# Altium footprint library switch.PcbLib: 36 footprints (part 1 of 3)
Each footprint in its own frame and in the unit in brackets; x right, y up, seen from the top. Pads: shape width x height; smd on the part's side, far side on the other; paste and mask are expansions set on the pad; w line width, h text height; cw(c..) or ccw(c..) is an arc to the next point about the centre after c.
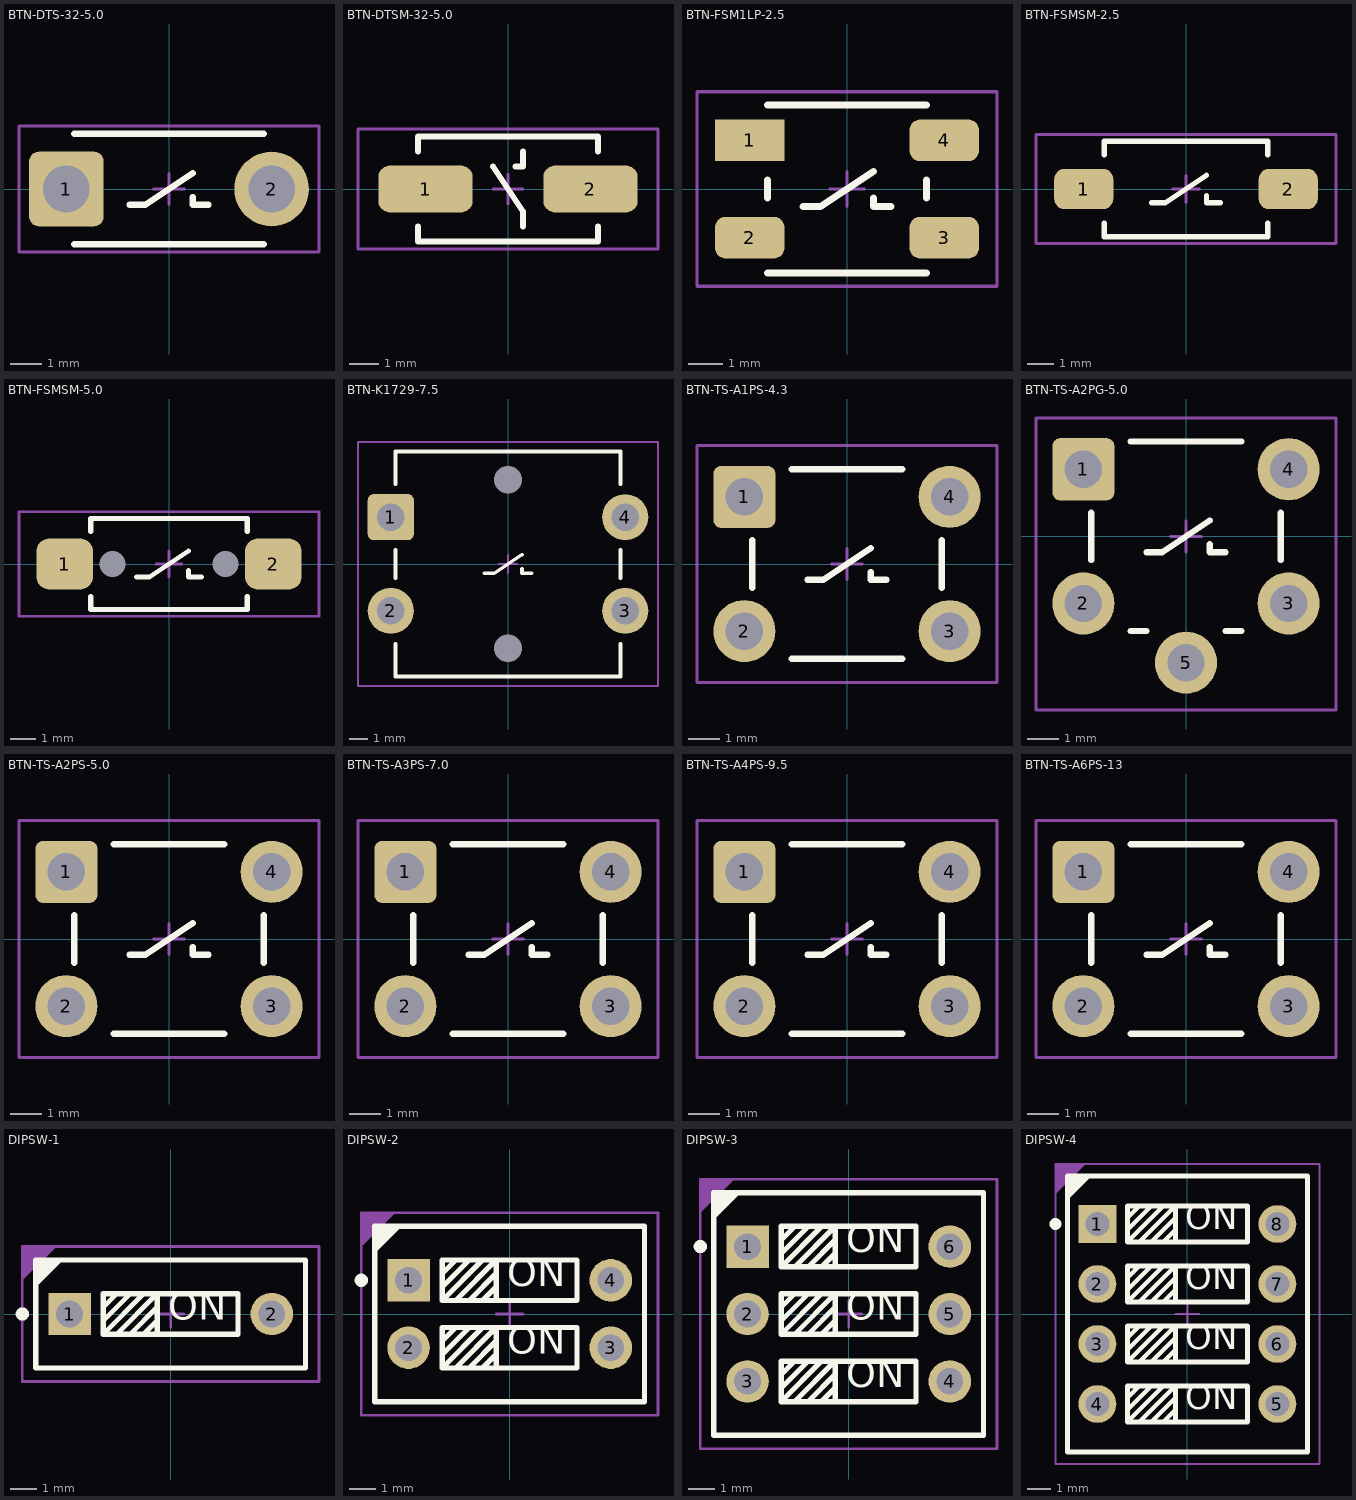
[diagram p0: the footprints below, top view; thin cyan lines are the x and y axes]

## BTN-DTS-32-5.0 [mm]
pads (2):
  rrect25% 2.4x2.4 hole 1.5: 1(-3.302,0)
  round 2.4 hole 1.5: 2(3.302,0)
Top Overlay:
  lines w0.2: -3.048,-1.778 3.048,-1.778 ; -3.048,1.778 3.048,1.778 ; -1.27,-0.508 -0.762,-0.508 0.762,0.508 ; 0.762,-0.254 0.762,-0.508 1.27,-0.508
Mechanical 13:
  lines w0.1: -4.826,-2.032 4.826,-2.032 4.826,2.032 -4.826,2.032 -4.826,-2.032
  text ".Designator" at -3.302,-1.016 h2
Mechanical 15:
  lines w0.05: -4.826,-2.032 4.826,-2.032 4.826,2.032 -4.826,2.032 -4.826,-2.032
  lines w0.1: -0.5,0 0.5,0 ; 0,-0.5 0,0.5
3D body: height 3.5, standoff 0.1, extent -3.048,-1.778 3.048,1.778
3D body: height 5, standoff 3.5, extent -1.524,-0.762 1.524,0.762

## BTN-DTSM-32-5.0 [mm]
pads (2):
  rrect50% 3.2x1.6 smd: 1(-2.794,0) 2(2.794,0)
Top Overlay:
  lines w0.2: -3.048,-1.27 -3.048,-1.778 3.048,-1.778 3.048,-1.27 ; -3.048,1.27 -3.048,1.778 3.048,1.778 3.048,1.27 ; -0.508,0.762 0.508,-0.762 0.508,-1.27 ; 0.254,0.762 0.508,0.762 0.508,1.27
Mechanical 13:
  lines w0.1: -5.08,-2.032 -5.08,2.032 5.08,2.032 5.08,-2.032 -5.08,-2.032
  text ".Designator" at -3.22,-0.94 h2
Mechanical 15:
  lines w0.05: -5.08,-2.032 -5.08,2.032 5.08,2.032 5.08,-2.032 -5.08,-2.032
  lines w0.1: -0.5,0 0.5,0 ; 0,-0.5 0,0.5
3D body: height 5, standoff 3.5, extent -1.524,-0.762 1.524,0.762
3D body: height 3.5, standoff 0.1, extent -3.048,-1.778 3.048,1.778

## BTN-FSM1LP-2.5 [mm]
pads (4):
  rect 2x1.2 smd: 1(-2.8,1.4)
  rrect50% 2x1.2 smd: 2(-2.8,-1.4) 3(2.8,-1.4) 4(2.8,1.4)
Top Overlay:
  lines w0.2: -2.286,-2.413 2.286,-2.413 ; -2.286,-0.254 -2.286,0.254 ; -2.286,2.413 2.286,2.413 ; -1.27,-0.508 -0.762,-0.508 0.762,0.508 ; 0.762,-0.254 0.762,-0.508 1.27,-0.508 ; 2.286,-0.254 2.286,0.254
Mechanical 13:
  lines w0.1: -4.318,-2.794 -4.318,2.794 4.318,2.794 4.318,-2.794 -4.318,-2.794
  text ".Designator" at -3.21,-0.96 h2
Mechanical 15:
  lines w0.05: -4.318,-2.794 -4.318,2.794 4.318,2.794 4.318,-2.794 -4.318,-2.794
  lines w0.1: -0.5,0 0.5,0 ; 0,-0.5 0,0.5
3D body: height 1.5, standoff 0.1, extent -2.2,-2.4 2.2,2.4
3D body: height 2.5, standoff 1.5, extent -0.992,-0.998 1,0.998

## BTN-FSMSM-2.5 [mm]
pads (2):
  rrect50% 2.2x1.5 smd: 1(-3.81,0) 2(3.81,0)
Top Overlay:
  lines w0.2: -3.048,-1.27 -3.048,-1.778 3.048,-1.778 3.048,-1.27 ; -3.048,1.27 -3.048,1.778 3.048,1.778 3.048,1.27 ; -1.27,-0.508 -0.762,-0.508 0.762,0.508 ; 0.762,-0.254 0.762,-0.508 1.27,-0.508
Mechanical 13:
  lines w0.1: -5.588,-2.032 5.588,-2.032 5.588,2.032 -5.588,2.032 -5.588,-2.032
  text ".Designator" at -3.29,-0.91 h2
Mechanical 15:
  lines w0.05: -5.588,-2.032 5.588,-2.032 5.588,2.032 -5.588,2.032 -5.588,-2.032
  lines w0.1: -0.5,0 0.5,0 ; 0,-0.5 0,0.5
3D body: height 1.5, standoff 0.1, extent -3.048,-1.778 3.048,1.778
3D body: height 2.5, standoff 1.5, extent -1.524,-0.762 1.524,0.762

## BTN-FSMSM-5.0 [mm]
pads (4):
  round 0 hole 1: 0(-2.2,0) 0(2.2,0)
  rrect50% 2.2x2 smd: 1(-4.064,0) 2(4.064,0)
Top Overlay:
  lines w0.2: -3.048,-1.27 -3.048,-1.778 3.048,-1.778 3.048,-1.27 ; -3.048,1.27 -3.048,1.778 3.048,1.778 3.048,1.27 ; -1.27,-0.508 -0.762,-0.508 0.762,0.508 ; 0.762,-0.254 0.762,-0.508 1.27,-0.508
Mechanical 13:
  lines w0.1: -5.842,-2.032 5.842,-2.032 5.842,2.032 -5.842,2.032 -5.842,-2.032
  text ".Designator" at -3.27,-0.95 h2
Mechanical 15:
  lines w0.05: -5.842,-2.032 5.842,-2.032 5.842,2.032 -5.842,2.032 -5.842,-2.032
  lines w0.1: -0.5,0 0.5,0 ; 0,-0.5 0,0.5
3D body: height 3.5, standoff 0.1, extent -3.048,-1.778 3.048,1.778
3D body: height 5, standoff 3.5, extent -1.524,-0.762 1.524,0.762

## BTN-K1729-7.5 [mm]
pads (6):
  round 0 hole 1.5: 0(0,-4.572) 0(0,4.572)
  rrect25% 2.5x2.5 hole 1.5: 1(-6.35,2.54)
  round 2.5 hole 1.5: 2(-6.35,-2.54) 3(6.35,-2.54) 4(6.35,2.54)
Top Overlay:
  lines w0.2: -6.096,-4.318 -6.096,-6.096 6.096,-6.096 6.096,-4.318 ; -6.096,-0.762 -6.096,0.762 ; -6.096,4.318 -6.096,6.096 6.096,6.096 6.096,4.318 ; -1.27,-0.508 -0.762,-0.508 0.762,0.508 ; 0.762,-0.254 0.762,-0.508 1.27,-0.508 ; 6.096,-0.762 6.096,0.762
Mechanical 13:
  lines w0.1: -8.128,-6.604 -8.128,6.604 8.128,6.604 8.128,-6.604 -8.128,-6.604
  text ".Designator" at -3.41,-0.88 h2
Mechanical 15:
  lines w0.05: -8.128,-6.604 -8.128,6.604 8.128,6.604 8.128,-6.604 -8.128,-6.604
  lines w0.1: -0.5,0 0.5,0 ; 0,-0.5 0,0.5
3D body: height 4.5, standoff 0.1, extent -6.096,-6.096 6.096,6.096
3D body: height 6.5, standoff 3.5, extent -3.302,-3.302 3.302,3.302

## BTN-TS-A1PS-4.3 [mm]
pads (4):
  rrect25% 2x2 hole 1.2: 1(-3.302,2.159)
  round 2 hole 1.2: 2(-3.302,-2.159) 3(3.302,-2.159) 4(3.302,2.159)
Top Overlay:
  lines w0.2: -3.048,-0.762 -3.048,0.762 ; -1.778,-3.048 1.778,-3.048 ; -1.778,3.048 1.778,3.048 ; -1.27,-0.508 -0.762,-0.508 0.762,0.508 ; 0.762,-0.254 0.762,-0.508 1.27,-0.508 ; 3.048,-0.762 3.048,0.762
Mechanical 13:
  lines w0.1: -4.826,-3.81 -4.826,3.81 4.826,3.81 4.826,-3.81 -4.826,-3.81
  text ".Designator" at -3.34,-0.93 h2
Mechanical 15:
  lines w0.05: -4.826,-3.8 -4.826,3.8 4.826,3.8 4.826,-3.8 -4.826,-3.8
  lines w0.1: -0.5,0 0.5,0 ; 0,-0.5 0,0.5
3D body: height 4.5, standoff 3.5, extent -1.778,-1.778 1.778,1.778
3D body: height 3.5, standoff 0.1, extent -3.048,-3.048 3.048,3.048

## BTN-TS-A2PG-5.0 [mm]
pads (5):
  rrect25% 2x2 hole 1.2: 1(-3.302,2.159)
  round 2 hole 1.2: 2(-3.302,-2.159) 3(3.302,-2.159) 4(3.302,2.159) 5(0,-4.064)
Top Overlay:
  lines w0.2: -3.048,-0.762 -3.048,0.762 ; -1.778,-3.048 -1.27,-3.048 ; -1.778,3.048 1.778,3.048 ; -1.27,-0.508 -0.762,-0.508 0.762,0.508 ; 0.762,-0.254 0.762,-0.508 1.27,-0.508 ; 1.27,-3.048 1.778,-3.048 ; 3.048,-0.762 3.048,0.762
Mechanical 13:
  lines w0.1: -4.826,-5.588 4.826,-5.588 4.826,3.81 -4.826,3.81 -4.826,-5.588
  text ".Designator" at -3.31,-0.94 h2
Mechanical 15:
  lines w0.05: -4.826,-5.588 4.826,-5.588 4.826,3.8 -4.826,3.8 -4.826,-5.588
  lines w0.1: -0.5,0 0.5,0 ; 0,-0.5 0,0.5
3D body: height 3.5, standoff 0.1, extent -3.048,-3.048 3.048,3.048
3D body: height 4.5, standoff 3.5, extent -1.778,-1.778 1.778,1.778

## BTN-TS-A2PS-5.0 [mm]
pads (4):
  rrect25% 2x2 hole 1.2: 1(-3.302,2.159)
  round 2 hole 1.2: 2(-3.302,-2.159) 3(3.302,-2.159) 4(3.302,2.159)
Top Overlay:
  lines w0.2: -3.048,-0.762 -3.048,0.762 ; -1.778,-3.048 1.778,-3.048 ; -1.778,3.048 1.778,3.048 ; -1.27,-0.508 -0.762,-0.508 0.762,0.508 ; 0.762,-0.254 0.762,-0.508 1.27,-0.508 ; 3.048,-0.762 3.048,0.762
Mechanical 13:
  lines w0.1: -4.826,-3.81 4.826,-3.81 4.826,3.81 -4.826,3.81 -4.826,-3.81
  text ".Designator" at -3.29,-0.95 h2
Mechanical 15:
  lines w0.05: -4.826,-3.8 4.826,-3.8 4.826,3.8 -4.826,3.8 -4.826,-3.8
  lines w0.1: -0.5,0 0.5,0 ; 0,-0.5 0,0.5
3D body: height 3.5, standoff 0.1, extent -3.048,-3.048 3.048,3.048
3D body: height 5, standoff 3.5, extent -1.778,-1.778 1.778,1.778

## BTN-TS-A3PS-7.0 [mm]
pads (4):
  rrect25% 2x2 hole 1.2: 1(-3.302,2.159)
  round 2 hole 1.2: 2(-3.302,-2.159) 3(3.302,-2.159) 4(3.302,2.159)
Top Overlay:
  lines w0.2: -3.048,-0.762 -3.048,0.762 ; -1.778,-3.048 1.778,-3.048 ; -1.778,3.048 1.778,3.048 ; -1.27,-0.508 -0.762,-0.508 0.762,0.508 ; 0.762,-0.254 0.762,-0.508 1.27,-0.508 ; 3.048,-0.762 3.048,0.762
Mechanical 13:
  lines w0.1: -4.826,-3.81 4.826,-3.81 4.826,3.81 -4.826,3.81 -4.826,-3.81
  text ".Designator" at -3.35,-0.96 h2
Mechanical 15:
  lines w0.05: -4.826,-3.8 4.826,-3.8 4.826,3.8 -4.826,3.8 -4.826,-3.8
  lines w0.1: -0.5,0 0.5,0 ; 0,-0.5 0,0.5
3D body: height 3.5, standoff 0.1, extent -3.048,-3.048 3.048,3.048
3D body: height 7.5, standoff 3.5, extent -1.778,-1.778 1.778,1.778

## BTN-TS-A4PS-9.5 [mm]
pads (4):
  rrect25% 2x2 hole 1.2: 1(-3.302,2.159)
  round 2 hole 1.2: 2(-3.302,-2.159) 3(3.302,-2.159) 4(3.302,2.159)
Top Overlay:
  lines w0.2: -3.048,-0.762 -3.048,0.762 ; -1.778,-3.048 1.778,-3.048 ; -1.778,3.048 1.778,3.048 ; -1.27,-0.508 -0.762,-0.508 0.762,0.508 ; 0.762,-0.254 0.762,-0.508 1.27,-0.508 ; 3.048,-0.762 3.048,0.762
Mechanical 13:
  lines w0.1: -4.826,-3.81 -4.826,3.81 4.826,3.81 4.826,-3.81 -4.826,-3.81
  text ".Designator" at -3.31,-0.95 h2
Mechanical 15:
  lines w0.05: -4.826,-3.8 -4.826,3.8 4.826,3.8 4.826,-3.8 -4.826,-3.8
  lines w0.1: -0.5,0 0.5,0 ; 0,-0.5 0,0.5
3D body: height 9.5, standoff 3.5, extent -1.778,-1.778 1.778,1.778
3D body: height 3.5, standoff 0.1, extent -3.048,-3.048 3.048,3.048

## BTN-TS-A6PS-13 [mm]
pads (4):
  rrect25% 2x2 hole 1.2: 1(-3.302,2.159)
  round 2 hole 1.2: 2(-3.302,-2.159) 3(3.302,-2.159) 4(3.302,2.159)
Top Overlay:
  lines w0.2: -3.048,-0.762 -3.048,0.762 ; -1.778,-3.048 1.778,-3.048 ; -1.778,3.048 1.778,3.048 ; -1.27,-0.508 -0.762,-0.508 0.762,0.508 ; 0.762,-0.254 0.762,-0.508 1.27,-0.508 ; 3.048,-0.762 3.048,0.762
Mechanical 13:
  lines w0.1: -4.826,-3.81 -4.826,3.81 4.826,3.81 4.826,-3.81 -4.826,-3.81
  text ".Designator" at -3.36,-0.95 h2
Mechanical 15:
  lines w0.05: -4.826,-3.8 -4.826,3.8 4.826,3.8 4.826,-3.8 -4.826,-3.8
  lines w0.1: -0.5,0 0.5,0 ; 0,-0.5 0,0.5
3D body: height 13.5, standoff 3.5, extent -1.778,-1.778 1.778,1.778
3D body: height 3.5, standoff 0.1, extent -3.048,-3.048 3.048,3.048

## DIPSW-1 [mm]
pads (2):
  rect 1.6x1.6 hole 1: 1(-3.81,0)
  round 1.6 hole 1: 2(3.81,0)
Top Overlay:
  circle w0.25: c-5.588,0 r0.125
  region: -5.08,1.016 -5.08,2.032 -4.064,2.032
  lines w0.2: -2.54,-0.254 -1.524,0.762 ; -2.54,0.254 -2.032,0.762 ; -2.032,-0.762 -0.508,0.762 -0.508,-0.762 ; -1.524,-0.762 -0.508,0.254 ; -1.016,-0.762 -0.508,-0.254 ; -1.016,0.762 -2.54,-0.762 ; -2.54,-0.762 -2.54,0.762 2.54,0.762 2.54,-0.762 -2.54,-0.762 ; -5.08,-2.032 5.08,-2.032 5.08,2.032 -5.08,2.032 -5.08,-2.032
  text "ON" at -0.098,-0.58 h1.8
Mechanical 13:
  region: -5.588,2.54 -5.588,1.27 -4.318,2.54
  lines w0.1: -5.588,-2.54 5.588,-2.54 5.588,2.54 -5.588,2.54 -5.588,-2.54
  text ".Designator" at -3.25,-0.95 h2
Mechanical 15:
  lines w0.05: -5.588,-2.54 5.588,-2.54 5.588,2.54 -5.588,2.54 -5.588,-2.54
  lines w0.1: -0.5,0 0.5,0 ; 0,-0.5 0,0.5
3D body: height 7, standoff 6, extent -2.54,-0.762 -0.508,0.762
3D body: height 6, standoff 0.5, extent -5.08,-2.032 5.08,2.032

## DIPSW-2 [mm]
pads (4):
  rect 1.6x1.6 hole 1: 1(-3.81,1.27)
  round 1.6 hole 1: 2(-3.81,-1.27) 3(3.81,-1.27) 4(3.81,1.27)
Top Overlay:
  circle w0.25: c-5.588,1.27 r0.125
  region: -5.08,2.286 -5.08,3.302 -4.064,3.302
  lines w0.2: -2.54,-1.524 -1.524,-0.508 ; -2.54,-1.016 -2.032,-0.508 ; -2.54,1.016 -1.524,2.032 ; -2.54,1.524 -2.032,2.032 ; -2.032,-2.032 -0.508,-0.508 -0.508,-2.032 ; -2.032,0.508 -0.508,2.032 -0.508,0.508 ; -1.524,-2.032 -0.508,-1.016 ; -1.524,0.508 -0.508,1.524 ; -1.016,-2.032 -0.508,-1.524 ; -1.016,-0.508 -2.54,-2.032 ; -1.016,0.508 -0.508,1.016 ; -1.016,2.032 -2.54,0.508 ; -2.54,-2.032 -2.54,-0.508 2.54,-0.508 2.54,-2.032 -2.54,-2.032 ; -2.54,0.508 -2.54,2.032 2.54,2.032 2.54,0.508 -2.54,0.508 ; -5.08,-3.302 5.08,-3.302 5.08,3.302 -5.08,3.302 -5.08,-3.302
  text "ON" at -0.098,0.69 h1.8
  text "ON" at -0.098,-1.85 h1.8
Mechanical 13:
  region: -5.588,3.81 -5.588,2.54 -4.318,3.81
  lines w0.1: -5.588,-3.81 5.588,-3.81 5.588,3.81 -5.588,3.81 -5.588,-3.81
  text ".Designator" at -3.21,-0.94 h2
Mechanical 15:
  lines w0.05: -5.588,-3.81 5.588,-3.81 5.588,3.81 -5.588,3.81 -5.588,-3.81
  lines w0.1: -0.5,0 0.5,0 ; 0,-0.5 0,0.5
3D body: height 7, standoff 6, extent -2.54,0.508 -0.508,2.032
3D body: height 7, standoff 6, extent -2.54,-2.032 -0.508,-0.508
3D body: height 6, standoff 0.5, extent -5.08,-3.302 5.08,3.302

## DIPSW-3 [mm]
pads (6):
  rect 1.6x1.6 hole 1: 1(-3.81,2.54)
  round 1.6 hole 1: 2(-3.81,0) 3(-3.81,-2.54) 4(3.81,-2.54) 5(3.81,0) 6(3.81,2.54)
Top Overlay:
  circle w0.25: c-5.588,2.54 r0.125
  region: -5.08,3.556 -5.08,4.572 -4.064,4.572
  lines w0.2: -2.54,-2.794 -1.524,-1.778 ; -2.54,-2.286 -2.032,-1.778 ; -2.54,-0.254 -1.524,0.762 ; -2.54,0.254 -2.032,0.762 ; -2.54,2.286 -1.524,3.302 ; -2.54,2.794 -2.032,3.302 ; -2.032,-3.302 -0.508,-1.778 -0.508,-3.302 ; -2.032,-0.762 -0.508,0.762 -0.508,-0.762 ; -2.032,1.778 -0.508,3.302 -0.508,1.778 ; -1.524,-3.302 -0.508,-2.286 ; -1.524,-0.762 -0.508,0.254 ; -1.524,1.778 -0.508,2.794 ; -1.016,-3.302 -0.508,-2.794 ; -1.016,-1.778 -2.54,-3.302 ; -1.016,-0.762 -0.508,-0.254 ; -1.016,0.762 -2.54,-0.762 ; -1.016,1.778 -0.508,2.286 ; -1.016,3.302 -2.54,1.778 ; -2.54,-3.302 -2.54,-1.778 2.54,-1.778 2.54,-3.302 -2.54,-3.302 ; -2.54,-0.762 -2.54,0.762 2.54,0.762 2.54,-0.762 -2.54,-0.762 ; -2.54,1.778 -2.54,3.302 2.54,3.302 2.54,1.778 -2.54,1.778 ; -5.08,-4.572 -5.08,4.572 5.08,4.572 5.08,-4.572 -5.08,-4.572
  text "ON" at -0.098,1.96 h1.8
  text "ON" at -0.098,-0.58 h1.8
  text "ON" at -0.098,-3.12 h1.8
Mechanical 13:
  region: -5.588,5.08 -5.588,3.81 -4.318,5.08
  lines w0.1: -5.588,-5.08 -5.588,5.08 5.588,5.08 5.588,-5.08 -5.588,-5.08
  text ".Designator" at -3.26,-0.94 h2
Mechanical 15:
  lines w0.05: -5.588,-5.08 -5.588,5.08 5.588,5.08 5.588,-5.08 -5.588,-5.08
  lines w0.1: -0.5,0 0.5,0 ; 0,-0.5 0,0.5
3D body: height 7, standoff 6, extent -2.54,1.778 -0.508,3.302
3D body: height 7, standoff 6, extent -2.54,-0.762 -0.508,0.762
3D body: height 7, standoff 6, extent -2.54,-3.302 -0.508,-1.778
3D body: height 6, standoff 0.5, extent -5.08,-4.572 5.08,4.572

## DIPSW-4 [mm]
pads (8):
  rect 1.6x1.6 hole 1: 1(-3.81,3.81)
  round 1.6 hole 1: 2(-3.81,1.27) 3(-3.81,-1.27) 4(-3.81,-3.81) 5(3.81,-3.81) 6(3.81,-1.27) 7(3.81,1.27) 8(3.81,3.81)
Top Overlay:
  circle w0.25: c-5.588,3.81 r0.125
  region: -5.08,4.826 -5.08,5.842 -4.064,5.842
  lines w0.2: -2.54,-4.064 -1.524,-3.048 ; -2.54,-3.556 -2.032,-3.048 ; -2.54,-1.524 -1.524,-0.508 ; -2.54,-1.016 -2.032,-0.508 ; -2.54,1.016 -1.524,2.032 ; -2.54,1.524 -2.032,2.032 ; -2.54,3.556 -1.524,4.572 ; -2.54,4.064 -2.032,4.572 ; -2.032,-4.572 -0.508,-3.048 -0.508,-4.572 ; -2.032,-2.032 -0.508,-0.508 -0.508,-2.032 ; -2.032,0.508 -0.508,2.032 -0.508,0.508 ; -2.032,3.048 -0.508,4.572 -0.508,3.048 ; -1.524,-4.572 -0.508,-3.556 ; -1.524,-2.032 -0.508,-1.016 ; -1.524,0.508 -0.508,1.524 ; -1.524,3.048 -0.508,4.064 ; -1.016,-4.572 -0.508,-4.064 ; -1.016,-3.048 -2.54,-4.572 ; -1.016,-2.032 -0.508,-1.524 ; -1.016,-0.508 -2.54,-2.032 ; -1.016,0.508 -0.508,1.016 ; -1.016,2.032 -2.54,0.508 ; -1.016,3.048 -0.508,3.556 ; -1.016,4.572 -2.54,3.048 ; -2.54,-4.572 -2.54,-3.048 2.54,-3.048 2.54,-4.572 -2.54,-4.572 ; -2.54,-2.032 -2.54,-0.508 2.54,-0.508 2.54,-2.032 -2.54,-2.032 ; -2.54,0.508 -2.54,2.032 2.54,2.032 2.54,0.508 -2.54,0.508 ; -2.54,3.048 -2.54,4.572 2.54,4.572 2.54,3.048 -2.54,3.048 ; -5.08,-5.842 -5.08,5.842 5.08,5.842 5.08,-5.842 -5.08,-5.842
  text "ON" at -0.098,3.23 h1.8
  text "ON" at -0.098,0.69 h1.8
  text "ON" at -0.098,-1.85 h1.8
  text "ON" at -0.098,-4.39 h1.8
Mechanical 13:
  region: -5.588,6.35 -5.588,5.08 -4.318,6.35
  lines w0.1: -5.588,-6.35 -5.588,6.35 5.588,6.35 5.588,-6.35 -5.588,-6.35
  text ".Designator" at -3.2,-0.95 h2
Mechanical 15:
  lines w0.05: -5.588,-6.35 -5.588,6.35 5.588,6.35 5.588,-6.35 -5.588,-6.35
  lines w0.1: -0.5,0 0.5,0 ; 0,-0.5 0,0.5
3D body: height 7, standoff 6, extent -2.54,3.048 -0.508,4.572
3D body: height 7, standoff 6, extent -2.54,0.508 -0.508,2.032
3D body: height 7, standoff 6, extent -2.54,-2.032 -0.508,-0.508
3D body: height 7, standoff 6, extent -2.54,-4.572 -0.508,-3.048
3D body: height 6, standoff 0.5, extent -5.08,-5.842 5.08,5.842